# EAGLE library part DSPIC33FJ64MC508IP (library 07_PIC)
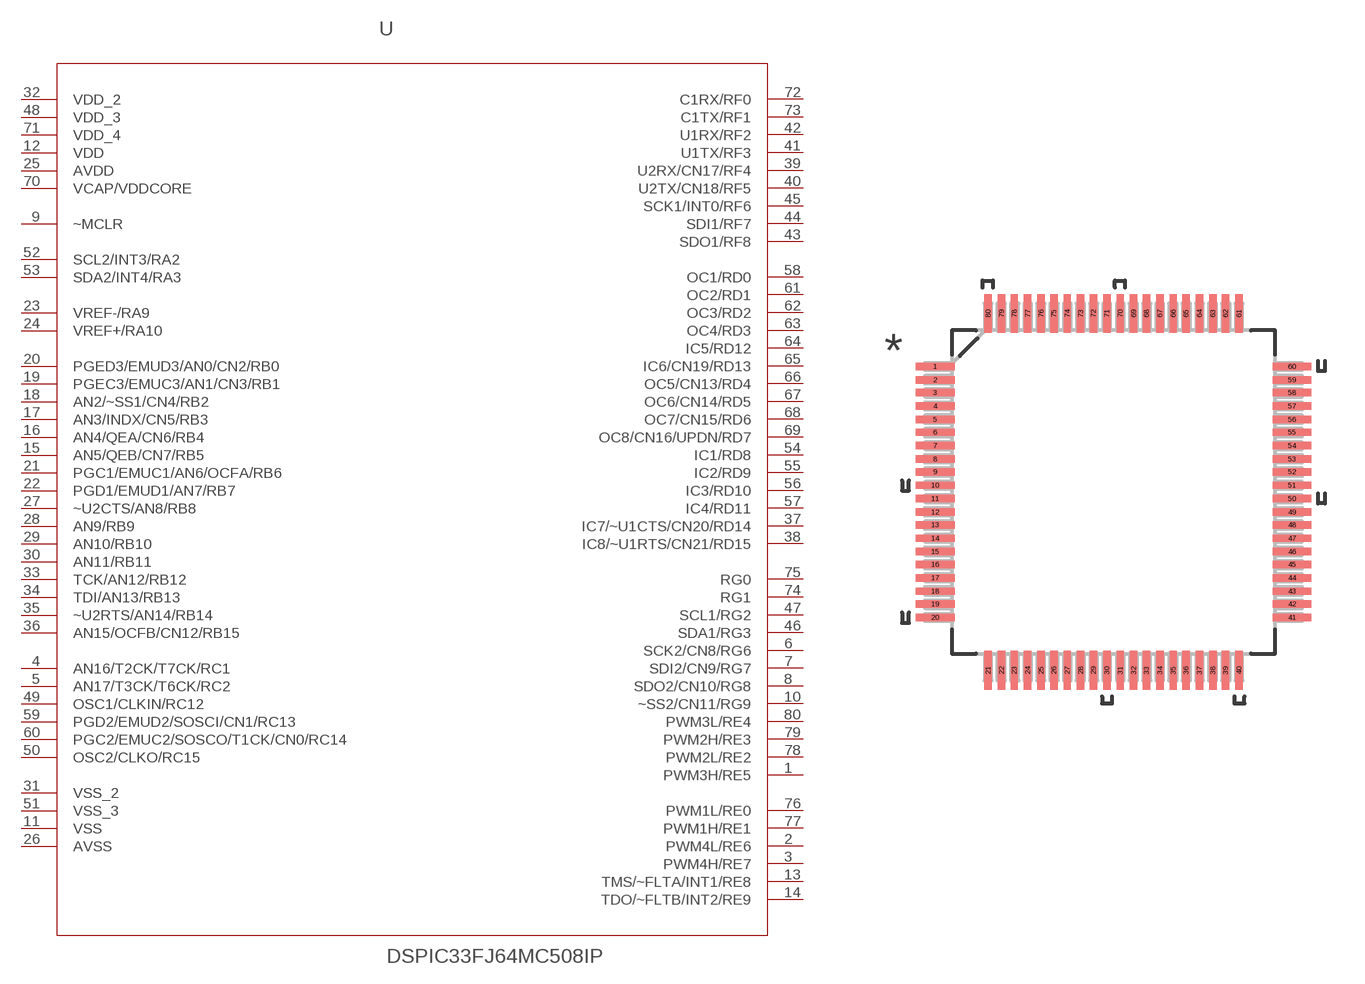
[diagram p0: symbol with the pads of QFP50P1400X1400X120-80N; footprint QFP50P1400X1400X120-80N]

Designator prefix -

## DSPIC33FJ64MC508IP  [QFP50P1400X1400X120-80N]
1  PWM3H/RE5
2  PWM4L/RE6
3  PWM4H/RE7
4  AN16/T2CK/T7CK/RC1
5  AN17/T3CK/T6CK/RC2
6  SCK2/CN8/RG6
7  SDI2/CN9/RG7
8  SDO2/CN10/RG8
9  ~MCLR  in
10  ~SS2/CN11/RG9
11  VSS  pwr
12  VDD  pwr
13  TMS/~FLTA/INT1/RE8
14  TDO/~FLTB/INT2/RE9
15  AN5/QEB/CN7/RB5
16  AN4/QEA/CN6/RB4
17  AN3/INDX/CN5/RB3
18  AN2/~SS1/CN4/RB2
19  PGEC3/EMUC3/AN1/CN3/RB1
20  PGED3/EMUD3/AN0/CN2/RB0
21  PGC1/EMUC1/AN6/OCFA/RB6
22  PGD1/EMUD1/AN7/RB7
23  VREF-/RA9
24  VREF+/RA10
25  AVDD  pwr
26  AVSS  pwr
27  ~U2CTS/AN8/RB8
28  AN9/RB9
29  AN10/RB10
30  AN11/RB11
31  VSS_2  pwr
32  VDD_2  pwr
33  TCK/AN12/RB12
34  TDI/AN13/RB13
35  ~U2RTS/AN14/RB14
36  AN15/OCFB/CN12/RB15
37  IC7/~U1CTS/CN20/RD14
38  IC8/~U1RTS/CN21/RD15
39  U2RX/CN17/RF4
40  U2TX/CN18/RF5
41  U1TX/RF3
42  U1RX/RF2
43  SDO1/RF8
44  SDI1/RF7
45  SCK1/INT0/RF6
46  SDA1/RG3
47  SCL1/RG2
48  VDD_3  pwr
49  OSC1/CLKIN/RC12
50  OSC2/CLKO/RC15
51  VSS_3  pwr
52  SCL2/INT3/RA2
53  SDA2/INT4/RA3
54  IC1/RD8
55  IC2/RD9
56  IC3/RD10
57  IC4/RD11
58  OC1/RD0
59  PGD2/EMUD2/SOSCI/CN1/RC13
60  PGC2/EMUC2/SOSCO/T1CK/CN0/RC14
61  OC2/RD1
62  OC3/RD2
63  OC4/RD3
64  IC5/RD12
65  IC6/CN19/RD13
66  OC5/CN13/RD4
67  OC6/CN14/RD5
68  OC7/CN15/RD6
69  OC8/CN16/UPDN/RD7
70  VCAP/VDDCORE  pwr
71  VDD_4  pwr
72  C1RX/RF0
73  C1TX/RF1
74  RG1
75  RG0
76  PWM1L/RE0
77  PWM1H/RE1
78  PWM2L/RE2
79  PWM2H/RE3
80  PWM3L/RE4

## Footprint QFP50P1400X1400X120-80N (pad centres in mm)
smd 1.473 x 0.279: 1 -6.756,4.75; 2 -6.756,4.242; 3 -6.756,3.759; 4 -6.756,3.251; 5 -6.756,2.743; 6 -6.756,2.261; 7 -6.756,1.753; 8 -6.756,1.245; 9 -6.756,0.762; 10 -6.756,0.254; 11 -6.756,-0.254; 12 -6.756,-0.762; 13 -6.756,-1.245; 14 -6.756,-1.753; 15 -6.756,-2.261; 16 -6.756,-2.743; 17 -6.756,-3.251; 18 -6.756,-3.759; 19 -6.756,-4.242; 20 -6.756,-4.75; 41 6.756,-4.75; 42 6.756,-4.242; 43 6.756,-3.759; 44 6.756,-3.251; 45 6.756,-2.743; 46 6.756,-2.261; 47 6.756,-1.753; 48 6.756,-1.245; 49 6.756,-0.762; 50 6.756,-0.254; 51 6.756,0.254; 52 6.756,0.762; 53 6.756,1.245; 54 6.756,1.753; 55 6.756,2.261; 56 6.756,2.743; 57 6.756,3.251; 58 6.756,3.759; 59 6.756,4.242; 60 6.756,4.75
smd 0.279 x 1.473: 21 -4.75,-6.756; 22 -4.242,-6.756; 23 -3.759,-6.756; 24 -3.251,-6.756; 25 -2.743,-6.756; 26 -2.261,-6.756; 27 -1.753,-6.756; 28 -1.245,-6.756; 29 -0.762,-6.756; 30 -0.254,-6.756; 31 0.254,-6.756; 32 0.762,-6.756; 33 1.245,-6.756; 34 1.753,-6.756; 35 2.261,-6.756; 36 2.743,-6.756; 37 3.251,-6.756; 38 3.759,-6.756; 39 4.242,-6.756; 40 4.75,-6.756; 61 4.75,6.756; 62 4.242,6.756; 63 3.759,6.756; 64 3.251,6.756; 65 2.743,6.756; 66 2.261,6.756; 67 1.753,6.756; 68 1.245,6.756; 69 0.762,6.756; 70 0.254,6.756; 71 -0.254,6.756; 72 -0.762,6.756; 73 -1.245,6.756; 74 -1.753,6.756; 75 -2.261,6.756; 76 -2.743,6.756; 77 -3.251,6.756; 78 -3.759,6.756; 79 -4.242,6.756; 80 -4.75,6.756